# Altium integrated library Library.IntLib: 4 symbols
Pins are listed as number, name and electrical type; pins without a type are passive.

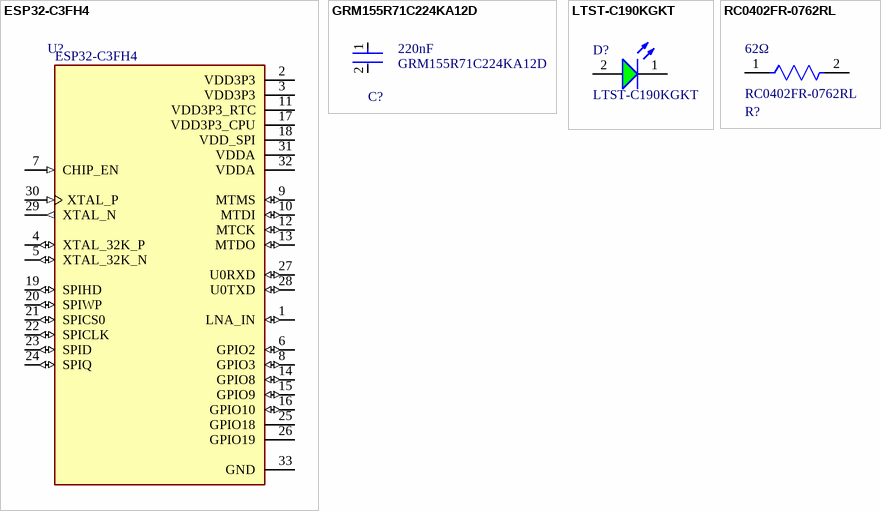
[diagram p0: symbols ESP32-C3FH4 to RC0402FR-0762RL]

## ESP32-C3FH4
designator U?  Manufacturer Part Number: ESP32-C3FH4  (hidden comment: *)
Bluetooth, WiFi 802.11b/g/n, Bluetooth v5.0 Transceiver Module 2.402GHz ~ 2.48GHz Antenna Not Included Surface Mount; LCSC Part Number: C2858491
footprint QFN50P500X500X90-33N
pins: 1 LNA_IN (io), 2 VDD3P3, 3 VDD3P3, 4 XTAL_32K_P (io), 5 XTAL_32K_N (io), 6 GPIO2 (io), 7 CHIP_EN (in), 8 GPIO3 (io), 9 MTMS (io), 10 MTDI (io), 11 VDD3P3_RTC, 12 MTCK (io), 13 MTDO (io), 14 GPIO8 (io), 15 GPIO9 (io), 16 GPIO10 (io), 17 VDD3P3_CPU, 18 VDD_SPI, 19 SPIHD (io), 20 SPIWP (io), 21 SPICS0 (io), 22 SPICLK (io), 23 SPID (io), 24 SPIQ (io), 25 GPIO18, 26 GPIO19, 27 U0RXD (io), 28 U0TXD (io), 29 XTAL_N (out), 30 XTAL_P (in), 31 VDDA, 32 VDDA, 33 GND (power)

## GRM155R71C224KA12D
designator C?  Manufacturer Part Number: GRM155R71C224KA12D  Capacitance: 220nF  (hidden comment: *)
220nF 0402 Multilayer Ceramic Capacitor; LCSC Part Number: C77011
footprint GRM155-0402-MFG
pins: 1, 2

## LTST-C190KGKT
designator D?  Manufacturer Part Number: LTST-C190KGKT  (hidden comment: *)
LED Emerald 2V 0603; Color: Green; Forward Voltage: 2V; LCSC Part Number: C125094
footprint FP-LTST-C190KGKT-MFG
pins: 1 K, 2 A

## RC0402FR-0762RL
designator R?  Resistance: 62Ω  Manufacturer Part Number: RC0402FR-0762RL  (hidden comment: *)
62Ω 0402 Chip Resistor; LCSC Part Number: C274896
footprint RC0402-MFG
pins: 1, 2